# Altium schematic symbol library GRM21BR71A105JA01K.SchLib: 1 symbol
Pins are listed as number, name and electrical type; pins without a type are passive.

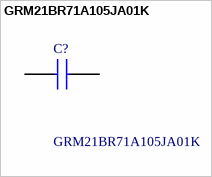
[diagram p0: symbol GRM21BR71A105JA01K]

## GRM21BR71A105JA01K
designator C?
Multilayer Ceramic Capacitors MLCC - SMD/SMT 0805 1uF 10volts X7R 5%; Manufacturer_Name: Murata Electronics; Geometry.Height: 1.45mm; Manufacturer_Part_Number: GRM21BR71A105JA01K; Mouser Part Number: 81-GRM21R71A105JA01K; Mouser Price/Stock: https://www.mouser.com/Search/Refine.aspx?Keyword=81-GRM21R71A105JA01K; Arrow Part Number: *; Arrow Price/Stock: *; Datasheet Link: http://www.murata.com/~/media/webrenewal/support/library/catalog/products/capacitor/mlcc/c02e.pdf
footprint CAPC2012X145N
pins: 1, 2